# EAGLE library part FLASH-EDGE8-MALE-NEW2 (library _openSX70)
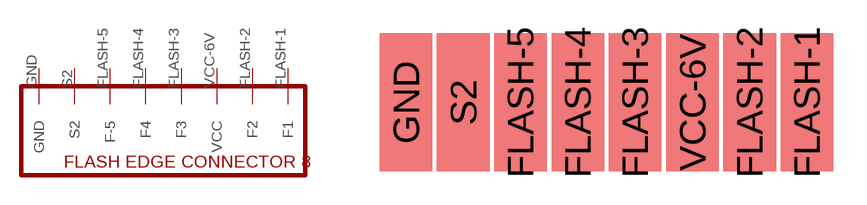
[diagram p36: symbol with the pads of FLASH-EDGE8-NEW2; footprint FLASH-EDGE8-NEW2]

Designator prefix -

## FLASH-EDGE8-MALE-NEW2  [FLASH-EDGE8-NEW2]
FLASH-1  F1
FLASH-2  F2
FLASH-3  F3
FLASH-4  F4
FLASH-5  F-5
GND  GND
S2  S2
VCC-6V  VCC

## Footprint FLASH-EDGE8-NEW2 (pad centres in mm)
smd 2.38 x 6.25: FLASH-1 9.24,-0.599; FLASH-2 6.65,-0.599; FLASH-3 1.47,-0.599; FLASH-4 -1.12,-0.599; FLASH-5 -3.71,-0.599; GND -8.89,-0.599; S2 -6.3,-0.599; VCC-6V 4.06,-0.599